# Altium schematic symbol library PowerIC.SchLib: 26 symbols
Pins are listed as number, name and electrical type; pins without a type are passive.

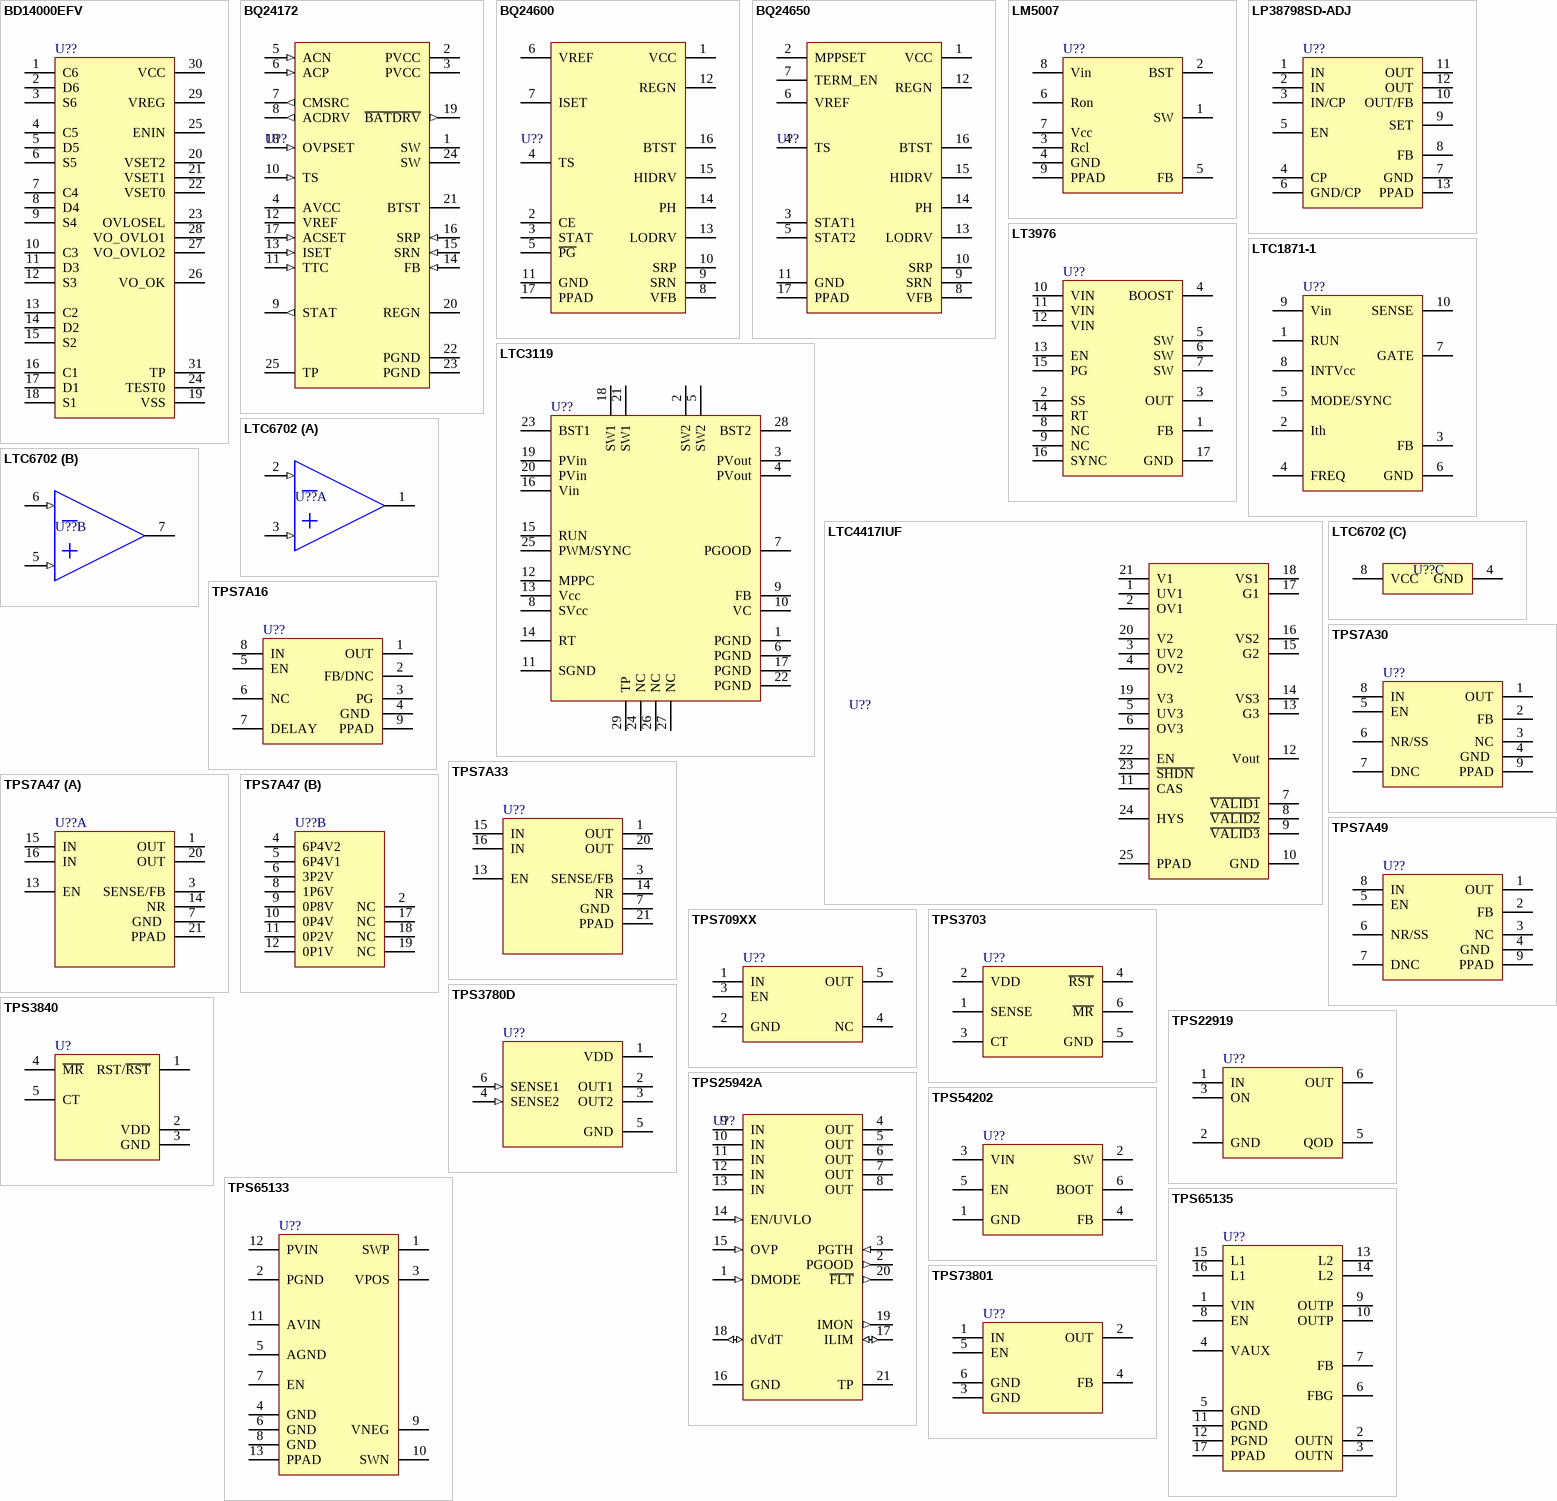
[diagram p0: symbols BD14000EFV to TPS73801]

## BD14000EFV
designator U??
pins: 1 C6 (power), 2 D6 (power), 3 S6 (power), 4 C5 (power), 5 D5 (power), 6 S5 (power), 7 C4 (power), 8 D4 (power), 9 S4 (power), 10 C3 (power), 11 D3 (power), 12 S3 (power), 13 C2 (power), 14 D2 (power), 15 S2 (power), 16 C1 (power), 17 D1 (power), 18 S1 (power), 19 VSS (power), 20 VSET2 (power), 21 VSET1 (power), 22 VSET0 (power), 23 OVLOSEL (power), 24 TEST0 (power), 25 ENIN (power), 26 VO_OK (power), 27 VO_OVLO2 (power), 28 VO_OVLO1 (power), 29 VREG (power), 30 VCC (power), 31 TP (power)

## BQ24172
designator U??
pins: 1 SW (power), 2 PVCC (power), 3 PVCC (power), 4 AVCC (power), 5 ACN (in), 6 ACP (in), 7 CMSRC (out), 8 ACDRV (out), 9 STAT (out), 10 TS (in), 11 TTC (in), 12 VREF (power), 13 ISET (in), 14 FB (in), 15 SRN (in), 16 SRP (in), 17 ACSET (in), 18 OVPSET (in), 19 ~{BATDRV} (out), 20 REGN (power), 21 BTST (power), 22 PGND (power), 23 PGND (power), 24 SW (power), 25 TP (power)

## BQ24600
designator U??
pins: 1 VCC, 2 CE, 3 STAT, 4 TS, 5 ~{PG}, 6 VREF, 7 ISET, 8 VFB, 9 SRN, 10 SRP, 11 GND, 12 REGN, 13 LODRV, 14 PH, 15 HIDRV, 16 BTST, 17 PPAD

## BQ24650
designator U??
pins: 1 VCC, 2 MPPSET, 3 STAT1, 4 TS, 5 STAT2, 6 VREF, 7 TERM_EN, 8 VFB, 9 SRN, 10 SRP, 11 GND, 12 REGN, 13 LODRV, 14 PH, 15 HIDRV, 16 BTST, 17 PPAD

## LM5007
designator U??
pins: 1 SW, 2 BST, 3 Rcl, 4 GND, 5 FB, 6 Ron, 7 Vcc, 8 Vin, 9 PPAD

## LP38798SD-ADJ
designator U??
pins: 1 IN, 2 IN, 3 IN/CP, 4 CP, 5 EN , 6 GND/CP, 7 GND, 8 FB, 9 SET, 10 OUT/FB, 11 OUT, 12 OUT, 13 PPAD

## LT3976
designator U??
pins: 1 FB, 2 SS (power), 3 OUT, 4 BOOST, 5 SW, 6 SW, 7 SW, 8 NC (power), 9 NC (power), 10 VIN, 11 VIN, 12 VIN, 13 EN (power), 14 RT (power), 15 PG (power), 16 SYNC (power), 17 GND

## LTC1871-1
designator U??
pins: 1 RUN (power), 2 Ith (power), 3 FB (power), 4 FREQ (power), 5 MODE/SYNC (power), 6 GND (power), 7 GATE, 8 INTVcc (power), 9 Vin, 10 SENSE (power)

## LTC3119
designator U??
pins: 1 PGND (power), 2 SW2 (power), 3 PVout, 4 PVout, 5 SW2 (power), 6 PGND (power), 7 PGOOD (power), 8 SVcc (power), 9 FB (power), 10 VC (power), 11 SGND (power), 12 MPPC (power), 13 Vcc (power), 14 RT (power), 15 RUN (power), 16 Vin, 17 PGND (power), 18 SW1 (power), 19 PVin, 20 PVin, 21 SW1 (power), 22 PGND (power), 23 BST1 (power), 24 NC (power), 25 PWM/SYNC (power), 26 NC (power), 27 NC (power), 28 BST2 (power), 29 TP (power)

## LTC4417IUF
designator U??
pins: 1 UV1, 2 OV1, 3 UV2, 4 OV2, 5 UV3, 6 OV3, 7 ~{VALID1}, 8 ~{VALID2}, 9 ~{VALID3}, 10 GND, 11 CAS, 12 Vout, 13 G3, 14 VS3, 15 G2, 16 VS2, 17 G1, 18 VS1, 19 V3, 20 V2, 21 V1, 22 EN, 23 ~{SHDN}, 24 HYS, 25 PPAD

## LTC6702
designator U??
part A pins: 1, 2 (in), 3 (in)
part B pins: 5 (in), 6 (in), 7
part C pins: 4 GND (power), 8 VCC (power)

## TPS7A16
designator U??
pins: 1 OUT, 2 FB/DNC, 3 PG, 4 GND , 5 EN , 6 NC, 7 DELAY, 8 IN, 9 PPAD

## TPS7A30
designator U??
pins: 1 OUT, 2 FB, 3 NC, 4 GND , 5 EN , 6 NR/SS, 7 DNC, 8 IN, 9 PPAD

## TPS7A33
designator U??
pins: 1 OUT, 3 SENSE/FB, 7 GND , 13 EN , 14 NR, 15 IN, 16 IN, 20 OUT, 21 PPAD

## TPS7A47
designator U??
part A pins: 1 OUT, 3 SENSE/FB, 7 GND , 13 EN , 14 NR, 15 IN, 16 IN, 20 OUT, 21 PPAD
part B pins: 2 NC, 4 6P4V2 , 5 6P4V1 , 6 3P2V , 8 1P6V , 9 0P8V, 10 0P4V, 11 0P2V , 12 0P1V , 17 NC, 18 NC, 19 NC

## TPS7A49
designator U??
pins: 1 OUT, 2 FB, 3 NC, 4 GND , 5 EN , 6 NR/SS, 7 DNC, 8 IN, 9 PPAD

## TPS709XX
designator U??
pins: 1 IN, 2 GND, 3 EN  "Vmax<6.5V", 4 NC, 5 OUT

## TPS3703
designator U??
pins: 1 SENSE, 2 VDD, 3 CT, 4 ~{RST}, 5 GND, 6 ~{MR}

## TPS3780D
designator U??
pins: 1 VDD, 2 OUT1 (oc), 3 OUT2 (oc), 4 SENSE2 (in), 5 GND, 6 SENSE1 (in)

## TPS3840
designator U?
pins: 1 RST/~{RST}, 2 VDD, 3 GND, 4 ~{MR}, 5 CT

## TPS22919
designator U??
pins: 1 IN, 2 GND, 3 ON, 5 QOD, 6 OUT

## TPS25942A
designator U??
pins: 1 DMODE (in), 2 PGOOD (out), 3 PGTH (in), 4 OUT, 5 OUT, 6 OUT, 7 OUT, 8 OUT, 9 IN, 10 IN, 11 IN, 12 IN, 13 IN, 14 EN/UVLO (in), 15 OVP (in), 16 GND (power), 17 ILIM (io), 18 dVdT (io), 19 IMON (out), 20 ~{FLT} (out), 21 TP (power)

## TPS54202
designator U??
pins: 1 GND, 2 SW, 3 VIN, 4 FB, 5 EN, 6 BOOT

## TPS65133
designator U??
pins: 1 SWP, 2 PGND (power), 3 VPOS, 4 GND, 5 AGND, 6 GND, 7 EN, 8 GND (power), 9 VNEG (power), 10 SWN, 11 AVIN, 12 PVIN, 13 PPAD (power)

## TPS65135
designator U??
pins: 1 VIN, 2 OUTN (power), 3 OUTN, 4 VAUX, 5 GND, 6 FBG, 7 FB, 8 EN (power), 9 OUTP (power), 10 OUTP, 11 PGND, 12 PGND, 13 L2 (power), 14 L2 (power), 15 L1 (power), 16 L1 (power), 17 PPAD

## TPS73801
designator U??
pins: 1 IN, 2 OUT, 3 GND , 4 FB, 5 EN , 6 GND